# EAGLE library part 193ИЕ3 (library 193)
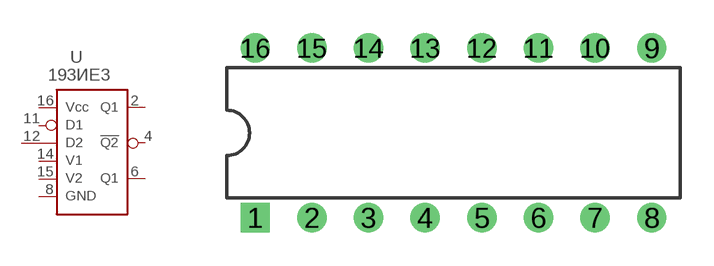
[diagram p0: symbol with the pads of DIL16; footprint DIL16]

Designator prefix -

## 193ИЕ3  [DIL16]
2  Q1  out
4  Q2  out
6  Q3  out
8  GND  pwr
11  D1  in
12  D2  in
14  V1  in
15  V2  in
16  VCC  pwr

## Footprint DIL16 (pad centres in mm)
drill 0.813 square: 1 -8.89,-3.81
drill 0.813: 2 -6.35,-3.81; 3 -3.81,-3.81; 4 -1.27,-3.81; 5 1.27,-3.81; 6 3.81,-3.81; 7 6.35,-3.81; 8 8.89,-3.81; 9 8.89,3.81; 10 6.35,3.81; 11 3.81,3.81; 12 1.27,3.81; 13 -1.27,3.81; 14 -3.81,3.81; 15 -6.35,3.81; 16 -8.89,3.81